# EAGLE library part SWITCH-TH-DPDT-PUSHPUSH (library LITTLEBITS140826)
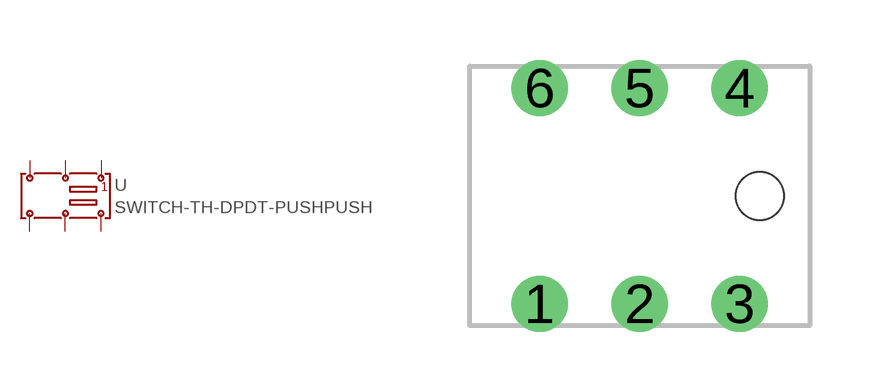
[diagram p60: symbol with the pads of SWITCH-TH-DPDT-PUSHPUSH-ALPSSPPH4; footprint SWITCH-TH-DPDT-PUSHPUSH-ALPSSPPH4]

Designator prefix -

## SWITCH-TH-DPDT-PUSHPUSH  [SWITCH-TH-DPDT-PUSHPUSH-ALPSSPPH4]
1  1
2  2
3  3
4  4
5  5
6  6

## Footprint SWITCH-TH-DPDT-PUSHPUSH-ALPSSPPH4 (pad centres in mm)
drill 0.9: 1 -2.5,-2.7; 2 0,-2.7; 3 2.5,-2.7; 4 2.5,2.7; 5 0,2.7; 6 -2.5,2.7
hole 1.2 at 3,0